# EAGLE library part VNH_3SP30 (library VNH 3SP30 :: Full-Bridge Motor Driver)
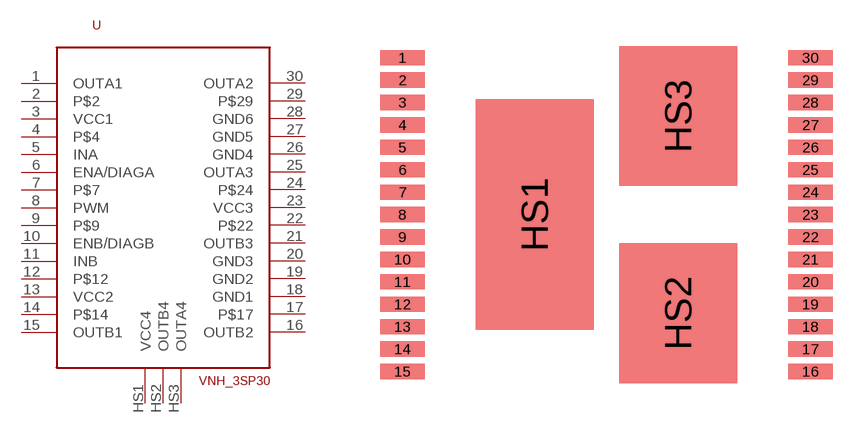
[diagram p0: symbol with the pads of POWERSO30; footprint POWERSO30]

Designator prefix -

## VNH_3SP30  [POWERSO30]
1  OUTA1  out
2  P$2  nc
3  VCC1  pwr
4  P$4  nc
5  INA
6  ENA/DIAGA
7  P$7  nc
8  PWM
9  P$9  nc
10  ENB/DIAGB
11  INB
12  P$12  nc
13  VCC2  pwr
14  P$14  nc
15  OUTB1  out
16  OUTB2  out
17  P$17  nc
18  GND1
19  GND2
20  GND3
21  OUTB3  out
22  P$22  nc
23  VCC3  pwr
24  P$24  nc
25  OUTA3  out
26  GND4
27  GND5
28  GND6
29  P$29  nc
30  OUTA2  out
HS1  VCC4  out
HS2  OUTB4  out
HS3  OUTA4  out

## Footprint POWERSO30 (pad centres in mm)
smd 2 x 0.68: 1 -9.1,7; 2 -9.1,6; 3 -9.1,5; 4 -9.1,4; 5 -9.1,3; 6 -9.1,2; 7 -9.1,1; 8 -9.1,0; 9 -9.1,-1; 10 -9.1,-2; 11 -9.1,-3; 12 -9.1,-4; 13 -9.1,-5; 14 -9.1,-6; 15 -9.1,-7; 16 9.1,-7; 17 9.1,-6; 18 9.1,-5; 19 9.1,-4; 20 9.1,-3; 21 9.1,-2; 22 9.1,-1; 23 9.1,0; 24 9.1,1; 25 9.1,2; 26 9.1,3; 27 9.1,4; 28 9.1,5; 29 9.1,6; 30 9.1,7
smd 5.25 x 10.3: HS1 -3.2,0
smd 5.25 x 6.23: HS2 3.2,-4.4; HS3 3.2,4.4